# Altium footprint library HDDR_16X1_0.PcbLib: 1 footprints
Each footprint in its own frame and in the unit in brackets; x right, y up, seen from the top. Pads: shape width x height; smd on the part's side, far side on the other; paste and mask are expansions set on the pad; w line width, h text height; cw(c..) or ccw(c..) is an arc to the next point about the centre after c.
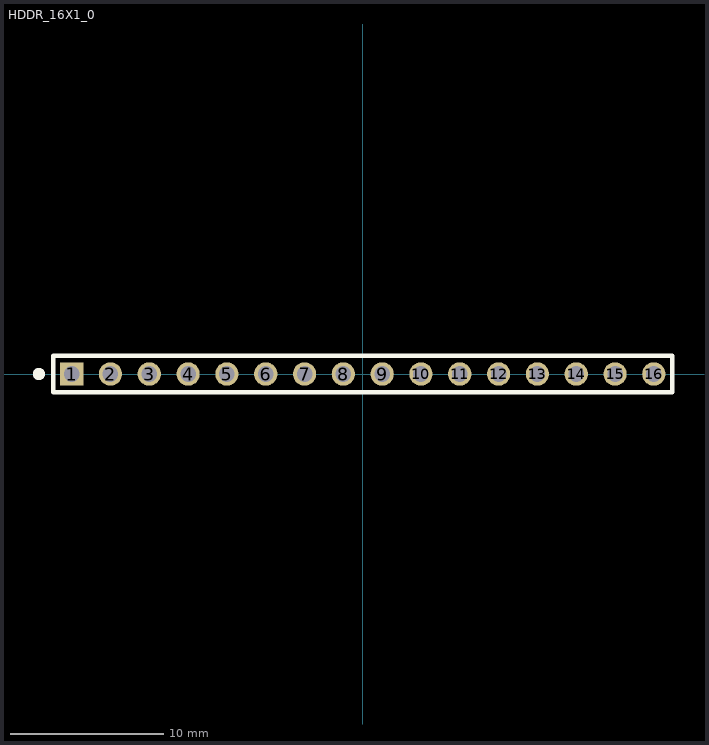
[diagram p0: the footprint, top view; thin cyan lines are the x and y axes]

## HDDR_16X1_0 [mil]
pads (16):
  rect 60x60 hole 40: 1(-750,0)
  round 60 hole 40: 2(-650,0) 3(-550,0) 4(-450,0) 5(-350,0) 6(-250,0) 7(-150,0) 8(-50,0) 9(50,0) 10(150,0) 11(250,0) 12(350,0) 13(450,0) 14(550,0) 15(650,0) 16(750,0)
Top Overlay:
  circle w15.75: c-834.45,0 r7.87
  lines w11.81: -797.24,-47.24 -797.24,47.24 797.24,47.24 797.24,-47.24 -797.24,-47.24
3D body "hddr_male_16x1.SLDPRT": height 336.22, standoff -118.11, extent -799.21,-50 800.79,50